# EAGLE library part M25P80-VMW6TG (library jobygnss)
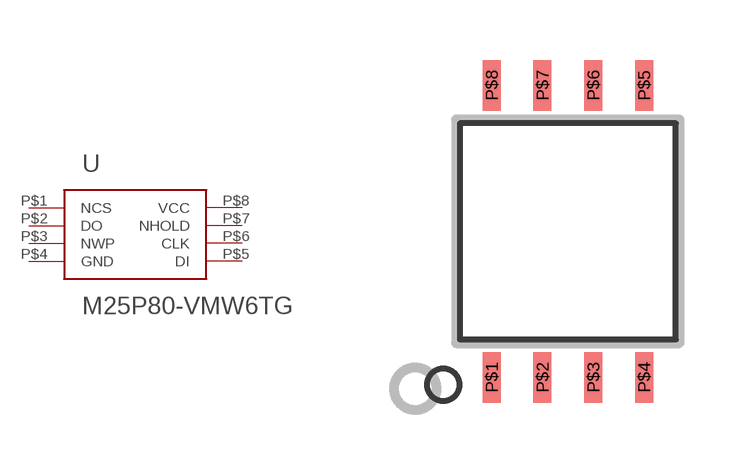
[diagram p5: symbol with the pads of M25P; footprint M25P]

Designator prefix -

## M25P80-VMW6TG  [M25P]
P$1  NCS
P$2  DO
P$3  NWP
P$4  GND
P$5  DI
P$6  CLK
P$7  NHOLD
P$8  VCC

## Footprint M25P (pad centres in mm)
smd 0.45 x 1.27: P$1 -1.905,-3.65; P$2 -0.635,-3.65; P$3 0.635,-3.65; P$4 1.905,-3.65; P$5 1.905,3.65; P$6 0.635,3.65; P$7 -0.635,3.65; P$8 -1.905,3.65